# Altium schematic symbol library SCH - ARM CORTEX - NXP LPC812M101JD20.SchLib: 1 symbol
Pins are listed as number, name and electrical type; pins without a type are passive.

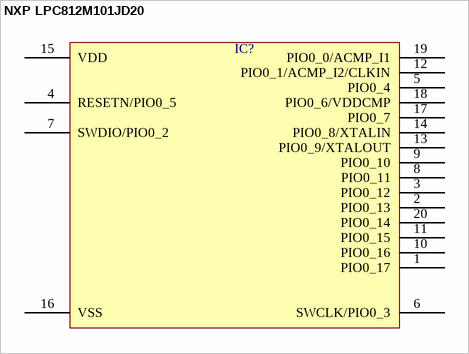
[diagram p0: symbol NXP LPC812M101JD20]

## NXP LPC812M101JD20
designator IC?  (value not drawn)
pins: 1 PIO0_17, 2 PIO0_13, 3 PIO0_12, 4 RESETN/PIO0_5, 5 PIO0_4, 6 SWCLK/PIO0_3, 7 SWDIO/PIO0_2, 8 PIO0_11, 9 PIO0_10, 10 PIO0_16, 11 PIO0_15, 12 PIO0_1/ACMP_I2/CLKIN, 13 PIO0_9/XTALOUT, 14 PIO0_8/XTALIN, 15 VDD, 16 VSS, 17 PIO0_7, 18 PIO0_6/VDDCMP, 19 PIO0_0/ACMP_I1, 20 PIO0_14